# Altium footprint library PSU24_for_FAN.PcbLib: 28 footprints (part 1 of 2)
Each footprint in its own frame and in the unit in brackets; x right, y up, seen from the top. Pads: shape width x height; smd on the part's side, far side on the other; paste and mask are expansions set on the pad; w line width, h text height; cw(c..) or ccw(c..) is an arc to the next point about the centre after c.
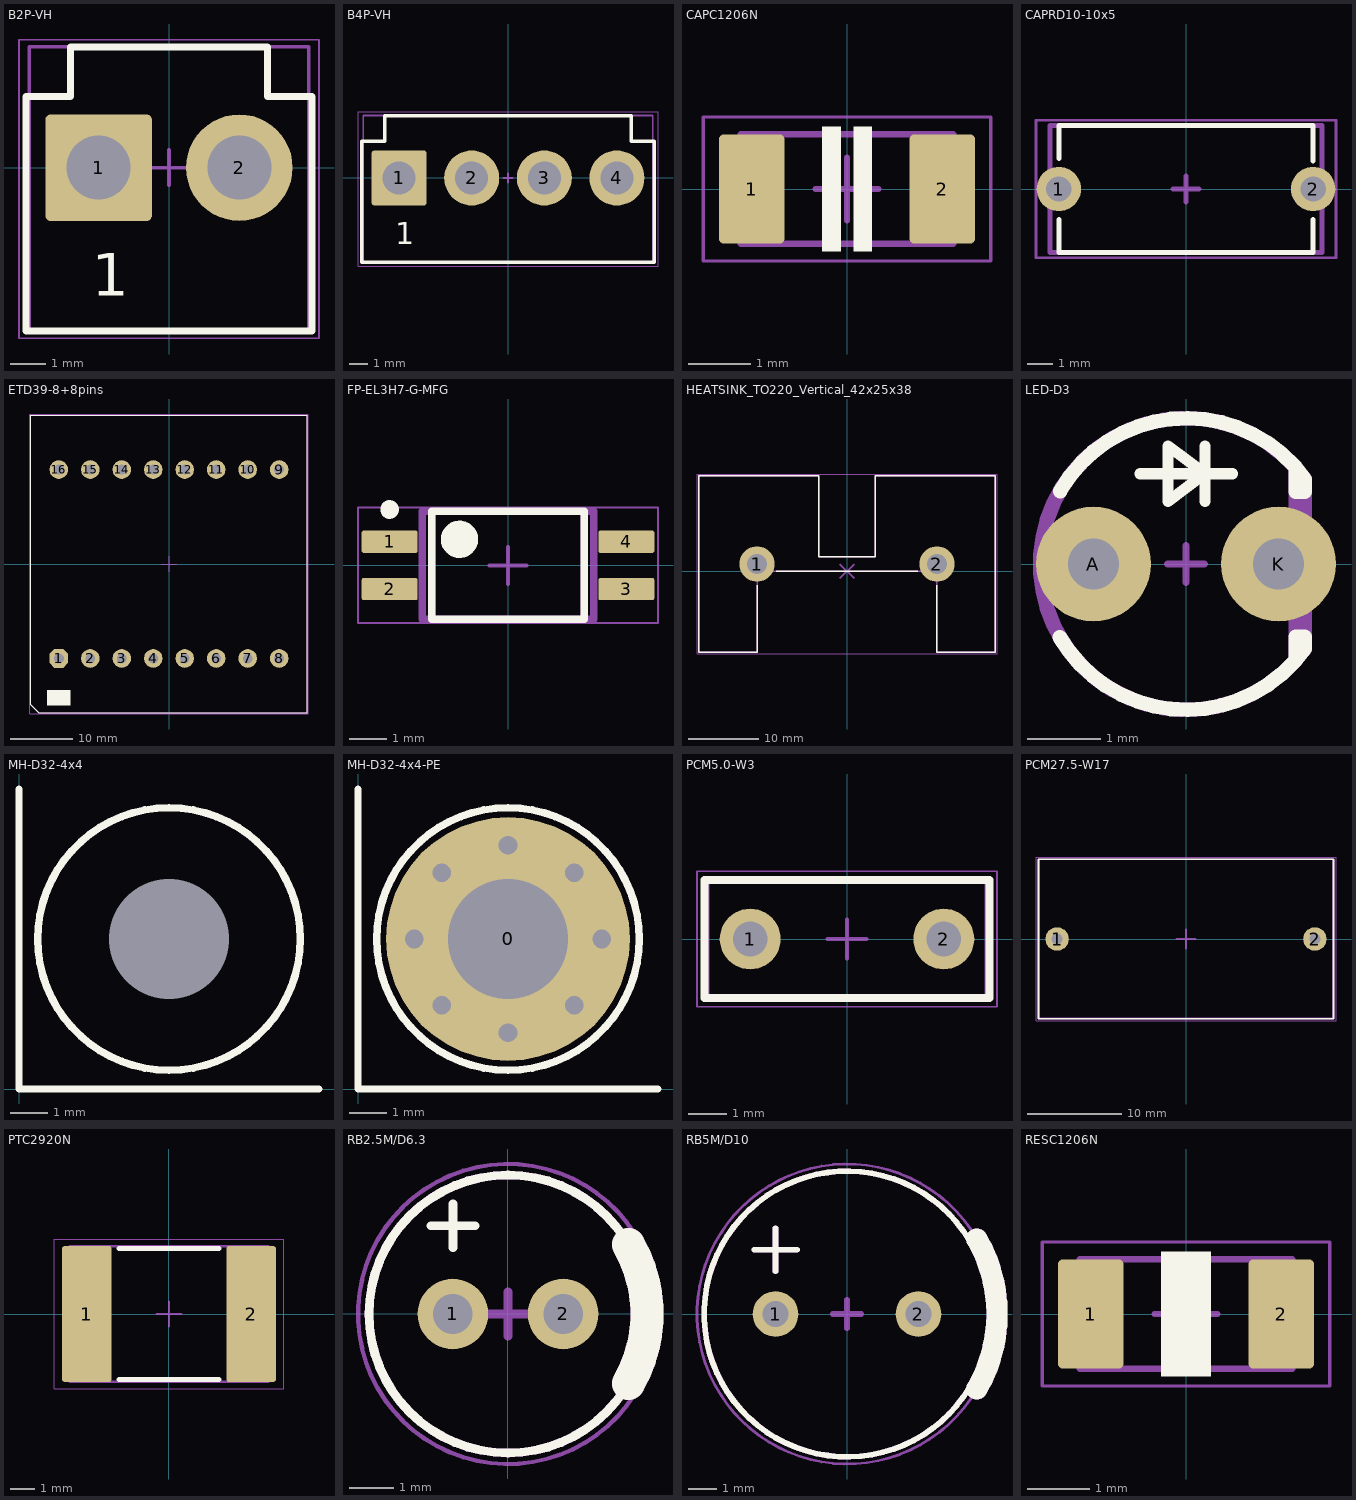
[diagram p0: the footprints below, top view; thin cyan lines are the x and y axes]

## B2P-VH [mm] "3.96mm间距接插件"
height 11
pads (2):
  rrect10% 3x3 hole 1.8: 1(-1.98,0)
  round 3 hole 1.8: 2(1.98,0)
Top Overlay:
  lines w0.2: -4.02,-4.6 4.02,-4.6 4.02,2 2.77,2 2.77,3.4 -2.77,3.4 -2.77,2 -4.02,2 -4.02,-4.6
  text "1" at -2.18,-3.6 h1.2
Top Component Center:
  lines w0.1: -0.5,0 0.5,0 ; 0,-0.5 0,0.5
Top Assembly:
  lines w0.1: -3.93,-4.6 -3.93,3.4 3.93,3.4 3.93,-4.6 -3.93,-4.6
Top Courtyard:
  lines w0.05: -4.22,-4.8 -4.22,3.6 4.22,3.6 4.22,-4.8 -4.22,-4.8
3D body "B2P-VH.STEP": height 11, standoff -3.6, extent -3.93,-4.85 3.93,3.65

## B4P-VH [mm] "JST-B4P-V, 3.96mm间距接插件"
height 11
pads (4):
  rrect10% 3x3 hole 1.8: 1(-5.94,0)
  round 3 hole 1.8: 2(-1.98,0) 3(1.98,0) 4(5.94,0)
Top Overlay:
  lines w0.2: -7.98,-4.6 7.98,-4.6 7.98,2 6.73,2 6.73,3.4 -6.73,3.4 -6.73,2 -7.98,2 -7.98,-4.6
  text "1" at -6.14,-3.6 h1.2
Top Component Center:
  lines w0.1: -0.25,0 0.25,0 ; 0,-0.25 0,0.25
Top Assembly:
  lines w0.1: -7.89,-4.6 -7.89,3.4 7.89,3.4 7.89,-4.6 -7.89,-4.6
Top Courtyard:
  lines w0.05: -8.18,-4.8 -8.18,3.6 8.18,3.6 8.18,-4.8 -8.18,-4.8
  lines w0.1: -2.48,0 -1.48,0 ; -1.98,-0.5 -1.98,0.5
3D body "B4P-VH.STEP": height 10.9, standoff -3.7, extent -7.89,-4.65 7.89,3.85

## CAPC1206N [mm] "Chip Capacitor, 2-Leads, Body 3.20x1.65mm, IPC Medium Density"
height 0.8
pads (2):
  rrect15% 1.05x1.75 smd: 1(-1.525,0) 2(1.525,0)
Top Overlay:
  region: 0.4,1 0.1,1 0.1,-1 0.4,-1
  rectangle: -0.4,-1 -0.1,1
Top Component Center:
  lines w0.1: -0.5,0 0.5,0 ; 0,-0.5 0,0.5
Top Assembly:
  lines w0.1: -1.7,-0.875 -1.7,0.875 1.7,0.875 1.7,-0.875 -1.7,-0.875
Top Courtyard:
  lines w0.05: -2.3,-1.15 2.3,-1.15 2.3,1.15 -2.3,1.15 -2.3,-1.15
3D body "CC3216-1206 SMD Capacitor.step": height 1, standoff 0, extent -1.6,-0.8 1.6,0.8

## CAPRD10-10x5 [mm] "Capacitor, Ceramic, Thru-Hole, Disc; Body 10 x 5 mm (LxW max) Pin Spacing 10 mm (typ)"
height 13
pads (2):
  round 1.75 hole 1: 1(-5,0) 2(5,0)
Top Overlay:
  lines w0.2: -5,-1.2 -5,-2.5 5,-2.5 5,-1.2 ; -5,1.2 -5,2.5 5,2.5 5,1.1
Top Component Center:
  lines w0.2: -0.5,0 0.5,0 ; 0,-0.5 0,0.5
Top Assembly:
  lines w0.2: -5.347,-2.5 5.347,-2.5 5.347,2.5 -5.347,2.5 -5.347,-2.5
Top Courtyard:
  lines w0.1: -5.9,-2.7 0,-2.7 5.9,-2.7 5.9,2.7 -5.9,2.7 -5.9,-2.7
3D body "C_Disc_D10.5mm_W5.0mm_P10.00mm.step": height 10.59, standoff -2, extent -5.347,-2.5 5.347,2.5

## ETD39-8+8pins [mm] "ETD39 卧式, 初级8脚, 次级8脚"
height 36.1
pads (16):
  oct 3x3 hole 1.6: 1(-17.78,-15.24)
  round 3 hole 1.6: 2(-12.7,-15.24) 3(-7.62,-15.24) 4(-2.54,-15.24) 5(2.54,-15.24) 6(7.62,-15.24) 7(12.7,-15.24) 8(17.78,-15.24) 9(17.78,15.24) 10(12.7,15.24) 11(7.62,15.24) 12(2.54,15.24) 13(-2.54,15.24) 14(-7.62,15.24) 15(-12.7,15.24) 16(-17.78,15.24)
Top Overlay:
  rectangle: -19.685,-22.86 -15.875,-20.32
  lines w0.2: -22.3,-22.7 -22.3,24 22.3,24 22.3,-24 -21,-24 -22.3,-22.7
Top Component Center:
  lines w0.2: -1.27,0 1.27,0 ; 0,-1.27 0,1.27
Top Assembly:
  lines w0.2: 22.3,24 22.3,-24 -21,-24 -22.3,-22.7 -22.3,24 22.3,24 ; 22.3,24 22.3,24
Top Courtyard:
  lines w0.1: -22.5,-24.2 -22.5,24.2 22.5,24.2 22.5,-24.2 -22.5,-24.2
3D body: height 36, standoff 0, extent -22.3,-24 22.3,24

## FP-EL3H7-G-MFG [mm]
height 20.5
pads (4):
  rrect17% 1.5x0.6 smd paste+0 mask+0: 1(-3.175,0.635) 2(-3.175,-0.635) 3(3.175,-0.635) 4(3.175,0.635)
Top Overlay:
  circle w0.25: c-3.175,1.5 r0.125
  circle w0.5: c-1.3,0.7 r0.25
  lines w0.2: -2.05,-1.45 -2.05,1.45 2.05,1.45 2.05,-1.45 -2.05,-1.45
Top 3D Body:
  lines w0.2: -2.3,-1.45 -2.3,1.45 2.3,1.45 2.3,-1.45 -2.3,-1.45
Top Component Center:
  lines w0.1: -0.5,0 0.5,0 ; 0,-0.5 0,0.5
Top Assembly:
  lines w0.2: -2.05,-1.45 -2.05,1.45 2.05,1.45 2.05,-1.45 -2.05,-1.45
  text ".Designator" at 0,0.187 h1
Top Courtyard:
  lines w0.05: -4.025,-1.55 -4.025,1.55 4.025,1.55 4.025,-1.55 -4.025,-1.55
3D body "Trans_Everlight_EL3H7_C_TA_-VG_eec.STEP": height 2, standoff 0, extent -3.5,-1.35 3.5,1.35

## HEATSINK_TO220_Vertical_42x25x38 [mm] "TO-220散热器，42x25x38mm，厚2.0mm，双针"
height 38
pads (2):
  round 5 hole 2.8: 1(-12.75,1) 2(12.75,1)
Top Overlay:
  lines w0.2: -12.75,-2 -12.75,-11.5 -21,-11.5 -21,13.5 -4,13.5 -4,2 4,2 4,13.5 21,13.5 21,-11.5 12.75,-11.5 12.75,-2 ; -10,0 10,0
Top Component Center:
  lines w0.2: -1,-1 1,1 ; -1,1 1,-1
Top Assembly:
  lines w0.2: -21,-11.5 -21,-11.5 ; -21,-11.5 -12.75,-11.5 -12.75,0 13,0 12.75,-0.25 12.75,-11.5 21,-11.5 21,13.5 4,13.5 4,2 -4,2 -4,13.5 -21,13.5 -21,-11.5
Top Courtyard:
  lines w0.1: -21.25,-11.75 21.25,-11.75 21.25,13.75 -21.25,13.75 -21.25,-11.75
3D body "Heat Sink 6398BG.step": height 38.2, standoff -3.9, extent -20.997,-11.75 20.997,13.638

## LED-D3 [mil] "D3mm LED"
height 807.09
pads (2):
  round 62 hole 27.56: A(-50,0) K(50,0)
Top Overlay:
  lines w6: -24.81,48.76 25.19,48.76 ; 10.19,33.76 10.19,63.76 ; -9.81,33.76 -9.81,63.76 10.19,48.76 -9.81,33.76
  lines w7.87: -68.11,-39.5 ccw(c0,0) 64.07,-45.77 64.07,-39.37 59.19,-39.37 59.19,-51.93 ; -67.98,39.43 cw(c0.19,0.02) 64.21,45.86 64.21,39.05 59.19,39.05 59.19,52.16
Top Component Center:
  lines w3.94: -9.84,0 9.84,0 ; 0,-9.84 0,9.84
Top Assembly:
  lines w7.87: 59.19,-51.93 59.19,51.93 ; 64.07,-45.77 cw(c0,0) 64.07,45.77 64.07,-45.77
3D body "LED-D3R.step": height 377.95, standoff -59.06, extent -78.74,-78.74 65.62,78.74

## MH-D32-4x4 [mm] "安装孔，直径3.2mm，边距4 x 4mm"
height 20.5
pads (1):
  round 0 hole 3.2: 0(4,4)
Top Overlay:
  circle w0.2: c4,4 r3.5
  lines w0.2: 0,8 0,0 8,0

## MH-D32-4x4-PE [mm] "安装孔，直径3.2mm，边距4 x 4mm，接地"
height 20.5
pads (1):
  round 6.5 hole 3.2: 0(4,4)
via 6.5,4 diameter 1 hole 0.5
via 5.768,5.768 diameter 1 hole 0.5
via 4,6.5 diameter 1 hole 0.5
via 2.232,5.768 diameter 1 hole 0.5
via 1.5,4 diameter 1 hole 0.5
via 2.232,2.232 diameter 1 hole 0.5
via 4,1.5 diameter 1 hole 0.5
via 5.768,2.232 diameter 1 hole 0.5
Top Overlay:
  circle w0.2: c4,4 r3.5
  lines w0.2: 0,8 0,0 8,0

## PCM5.0-W3 [mm]
height 20.5
pads (2):
  round 1.575 hole 0.9: 1(-2.5,0) 2(2.5,0)
Top Overlay:
  lines w0.2: -3.683,-1.524 -3.683,1.524 3.683,1.524 3.683,-1.524 -3.683,-1.524
Top Assembly:
  lines w0.1: -3.6,-1.5 3.6,-1.5 3.6,1.5 -3.6,1.5 -3.6,-1.5
Top Courtyard:
  lines w0.05: -3.875,-1.75 3.875,-1.75 3.875,1.75 -3.875,1.75 -3.875,-1.75
  lines w0.1: -0.5,0 0.5,0 ; 0,-0.5 0,0.5
3D body "CAPRR500W50L720T300H750_WIMA_1B.STEP": height 7.55, standoff -2.45, extent -3.6,-1.5 3.6,1.5

## PCM27.5-W17 [mm]
height 29
pads (2):
  round 2.5 hole 1.2: 1(-13.75,0) 2(13.75,0)
Top Overlay:
  lines w0.2: -15.75,-8.5 -15.75,8.5 15.75,8.5 15.75,-8.5 -15.75,-8.5
Top Component Center:
  lines w0.2: -1,0 1,0 ; 0,-1 0,1
Top Assembly:
  lines w0.2: 15.75,-8.5 -15.75,-8.5 -15.75,8.5 15.75,8.5 15.75,-8.5 ; 15.75,-8.5 15.75,-8.5
Top Courtyard:
  lines w0.1: -16,-8.7 -16,8.7 16,8.7 16,-7.6 16,-8.7 15.9,-8.7 -16,-8.7
3D body "C_Rect_L31.5mm_W17.0mm_P27.50mm_MKS4.step": height 26.1, standoff -1.8, extent -15.75,-8.5 15.75,8.5

## PTC2920N [mm] "Chip PTC Fuse Resistor, 2-Leads, Body 7.36x5.12mm, IPC Medium Density"
height 1.2
pads (2):
  rrect10% 2x5.45 smd: 1(-3.3,0) 2(3.3,0)
Top Overlay:
  lines w0.2: -2,-2.625 2,-2.625 ; -2,2.625 2,2.625
Top Assembly:
  lines w0.1: -3.99,-2.72 -3.99,2.72 3.99,2.72 3.99,-2.72 -3.99,-2.72
Top Courtyard:
  lines w0.05: -4.6,-3 -4.6,3 4.6,3 4.6,-3 -4.6,-3
  lines w0.1: -0.5,0 0.5,0 ; 0,-0.5 0,0.5
3D body "Fuse 2920.step": height 0.95, standoff 0.05, extent -3.68,-2.56 3.68,2.56

## RB2.5M/D6.3 [mm]
height 11
pads (2):
  round 1.6 hole 0.9: 1(-1.25,0) 2(1.25,0)
Top Overlay:
  circle w0.2: c0,0 r3.15
  lines w0.2: -1.75,2 -0.75,2 ; -1.25,1.5 -1.25,2.5
  lines w0.75: 2.728,-1.575 ccw(c0,0) 2.728,1.575
Top Component Center:
  lines w0.2: -0.5,0 0.5,0 ; 0,-0.5 0,0.5
Top Assembly:
  circle w0.2: c0,0 r3.15
  lines w0.75: 2.728,-1.575 ccw(c0,0) 2.728,1.575
Top Courtyard:
  circle w0.1: c0,0 r3.4
3D body "CP_Radial_D6.3mm_P2.50mm.step": height 6.3, standoff -2, extent -3.148,-3.15 3.15,3.144

## RB5M/D10 [mm]
height 20
pads (2):
  round 1.6 hole 0.9: 1(-2.5,0) 2(2.5,0)
Top Overlay:
  circle w0.2: c0,0 r5
  lines w0.2: -3.25,2.25 -1.75,2.25 ; -2.5,1.5 -2.5,3
  lines w0.75: 4.547,-2.625 ccw(c0,0) 4.547,2.625
Top Component Center:
  lines w0.2: -0.5,0 0.5,0 ; 0,-0.5 0,0.5
Top Assembly:
  circle w0.2: c0,0 r5
  lines w0.2: -3.25,2.25 -1.75,2.25 ; -2.5,1.5 -2.5,3
  lines w0.75: 4.547,-2.625 ccw(c0,0) 4.547,2.625
Top Courtyard:
  circle w0.1: c0,0 r5.25
3D body "CP_Radial_D10.0mm_P5.00mm.step": height 10, standoff -2, extent -5,-4.998 5,5

## RESC1206N [mm] "Chip Resistor, 2-Leads, Body 3.20x1.65mm, IPC Medium Density"
height 0.6
pads (2):
  rrect15% 1.05x1.75 smd: 1(-1.525,0) 2(1.525,0)
Top Overlay:
  rectangle: -0.4,-1 0.4,1
Top Component Center:
  lines w0.1: -0.5,0 0.5,0 ; 0,-0.5 0,0.5
Top Assembly:
  lines w0.1: -1.7,-0.875 -1.7,0.875 1.7,0.875 1.7,-0.875 -1.7,-0.875
Top Courtyard:
  lines w0.05: -2.3,-1.15 -2.3,1.15 2.3,1.15 2.3,-1.15 -2.3,-1.15
3D body "CR3216-1206.step": height 0.6, standoff 0, extent -1.6,-0.8 1.6,0.8